# Altium footprint library ESP8266EX.PcbLib: 3 footprints
Each footprint in its own frame and in the unit in brackets; x right, y up, seen from the top. Pads: shape width x height; smd on the part's side, far side on the other; paste and mask are expansions set on the pad; w line width, h text height; cw(c..) or ccw(c..) is an arc to the next point about the centre after c.
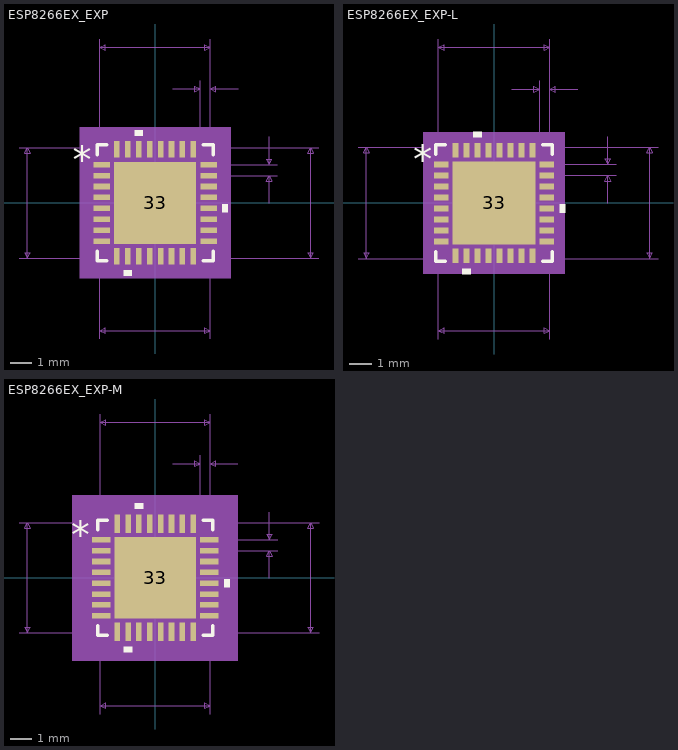
[diagram p0: the footprints below, top view; thin cyan lines are the x and y axes]

## ESP8266EX_EXP [mm]
pads (33):
  rect 0.757x0.255 smd paste+0 mask+0: 1(-2.449,1.75) 2(-2.449,1.25) 3(-2.449,0.75) 4(-2.449,0.25) 5(-2.449,-0.25) 6(-2.449,-0.75) 7(-2.449,-1.25) 8(-2.449,-1.75) 17(2.449,-1.75) 18(2.449,-1.25) 19(2.449,-0.75) 20(2.449,-0.25) 21(2.449,0.25) 22(2.449,0.75) 23(2.449,1.25) 24(2.449,1.75)
  rect 0.255x0.757 smd paste+0 mask+0: 9(-1.75,-2.449) 10(-1.25,-2.449) 11(-0.75,-2.449) 12(-0.25,-2.449) 13(0.25,-2.449) 14(0.75,-2.449) 15(1.25,-2.449) 16(1.75,-2.449) 25(1.75,2.449) 26(1.25,2.449) 27(0.75,2.449) 28(0.25,2.449) 29(-0.25,2.449) 30(-0.75,2.449) 31(-1.25,2.449) 32(-1.75,2.449)
  rect 3.759x3.759 smd paste-1.867 mask+0: 33(0,0)
Top Overlay:
  region: -0.56,3.081 -0.941,3.081 -0.941,3.335 -0.56,3.335
  region: 3.081,-0.059 3.335,-0.059 3.335,-0.44 3.081,-0.44
  region: -1.06,-3.081 -1.441,-3.081 -1.441,-3.335 -1.06,-3.335
  lines w0.152: -2.654,-2.21 -2.654,-2.654 -2.21,-2.654 ; -2.654,2.21 -2.654,2.654 -2.21,2.654 ; 2.21,-2.654 2.654,-2.654 2.654,-2.21 ; 2.21,2.654 2.654,2.654 2.654,2.21
  text "*" at -3.78,1.365 h1.27
Top Paste:
  region: 1.78,-0.1 0.1,-0.1 0.1,-1.78 1.78,-1.78
  region: 1.78,1.78 0.1,1.78 0.1,0.1 1.78,0.1
  region: -0.1,-0.1 -1.78,-0.1 -1.78,-1.78 -0.1,-1.78
  region: -0.1,1.78 -1.78,1.78 -1.78,0.1 -0.1,0.1
Mechanical 5:
  region: 3.462,-3.462 -3.462,-3.462 -3.462,3.462 3.462,3.462
Mechanical 7:
  lines w0.025: -6.233,-2.527 2.527,-2.527 ; -6.233,2.527 2.527,2.527 2.527,-6.233 ; -2.527,-6.233 -2.527,2.527 ; -2.527,1.75 -2.527,7.503 ; 0.8,5.217 2.07,5.217 ; 1.75,-2.527 7.503,-2.527 ; 1.75,2.527 7.503,2.527 ; 2.07,1.75 2.07,5.598 ; 2.449,1.25 5.598,1.25 ; 2.449,1.75 5.598,1.75 ; 2.527,5.598 2.527,1.75 2.527,7.503 ; 3.797,5.217 2.527,5.217 ; 5.217,-0.02 5.217,1.25 ; 5.217,3.02 5.217,1.75 ; -5.852,-2.527 -5.725,-2.273 -5.979,-2.273 -5.852,-2.527 ; -5.852,-2.527 -5.852,2.527 ; -5.852,2.527 -5.725,2.273 -5.979,2.273 -5.852,2.527 ; -2.527,-5.852 -2.273,-5.979 -2.273,-5.725 -2.527,-5.852 ; -2.527,-5.852 2.527,-5.852 ; -2.527,7.122 -2.273,6.995 -2.273,7.249 -2.527,7.122 ; -2.527,7.122 2.527,7.122 ; 2.07,5.217 1.816,5.09 1.816,5.344 2.07,5.217 ; 2.527,-5.852 2.273,-5.979 2.273,-5.725 2.527,-5.852 ; 2.527,5.217 2.781,5.09 2.781,5.344 2.527,5.217 ; 2.527,7.122 2.273,6.995 2.273,7.249 2.527,7.122 ; 5.217,1.25 5.344,0.996 5.09,0.996 5.217,1.25 ; 5.217,1.75 5.344,2.004 5.09,2.004 5.217,1.75 ; 7.122,-2.527 7.249,-2.273 6.995,-2.273 7.122,-2.527 ; 7.122,-2.527 7.122,2.527 ; 7.122,2.527 7.249,2.273 6.995,2.273 7.122,2.527
  text "0.199in/5.055mm" at -2.381,-6.995 h0.64
  text "0.199in/5.055mm" at -11.123,-0.318 h0.64
  text "0.199in/5.055mm" at 7.63,-0.318 h0.64
  text "0.199in/5.055mm" at -2.381,7.63 h0.64
  text "0.018in/0.457mm" at -0.083,5.725 h0.64
  text "0.02in/0.5mm" at 5.725,1.182 h0.64
  text "Alt 2 Padstyle: b229_152h76" at -8.572,-16.797 h1.27
  text "Alt 1 Padstyle: b152_229h76" at -8.572,-15.273 h1.27
  text "Heat Tab Padstyle: r376_376" at -8.572,-12.225 h1.27
  text "Default Padstyle: r25_76" at -7.62,-10.701 h1.27
Mechanical 13:
  lines w0.025: -2.527,1.257 -1.257,2.527 ; -2.527,-2.527 -2.527,2.527 2.527,2.527 2.527,-2.527 -2.527,-2.527 ; -2.527,-1.902 -2.527,-1.598 -2.527,-1.902 ; -2.527,-1.402 -2.527,-1.098 -2.527,-1.402 ; -2.527,-0.902 -2.527,-0.598 -2.527,-0.902 ; -2.527,-0.402 -2.527,-0.098 -2.527,-0.402 ; -2.527,0.098 -2.527,0.402 -2.527,0.098 ; -2.527,0.598 -2.527,0.902 -2.527,0.598 ; -2.527,1.098 -2.527,1.402 -2.527,1.098 ; -2.527,1.598 -2.527,1.902 -2.527,1.598 ; -1.902,-2.527 -1.598,-2.527 -1.902,-2.527 ; -1.902,2.527 -1.598,2.527 -1.902,2.527 ; -1.402,-2.527 -1.098,-2.527 -1.402,-2.527 ; -1.402,2.527 -1.098,2.527 -1.402,2.527 ; -0.902,-2.527 -0.598,-2.527 -0.902,-2.527 ; -0.902,2.527 -0.598,2.527 -0.902,2.527 ; -0.402,-2.527 -0.098,-2.527 -0.402,-2.527 ; -0.402,2.527 -0.098,2.527 -0.402,2.527 ; 0.098,-2.527 0.402,-2.527 0.098,-2.527 ; 0.098,2.527 0.402,2.527 0.098,2.527 ; 0.598,-2.527 0.902,-2.527 0.598,-2.527 ; 0.598,2.527 0.902,2.527 0.598,2.527 ; 1.098,-2.527 1.402,-2.527 1.098,-2.527 ; 1.098,2.527 1.402,2.527 1.098,2.527 ; 1.598,-2.527 1.902,-2.527 1.598,-2.527 ; 1.598,2.527 1.902,2.527 1.598,2.527 ; 2.527,-1.902 2.527,-1.598 2.527,-1.902 ; 2.527,-1.402 2.527,-1.098 2.527,-1.402 ; 2.527,-0.902 2.527,-0.598 2.527,-0.902 ; 2.527,-0.402 2.527,-0.098 2.527,-0.402 ; 2.527,0.098 2.527,0.402 2.527,0.098 ; 2.527,0.598 2.527,0.902 2.527,0.598 ; 2.527,1.098 2.527,1.402 2.527,1.098 ; 2.527,1.598 2.527,1.902 2.527,1.598
  text "*" at -2.388,1.365 h1.27
Mechanical 15:
  region: -2.131,-2.781 -2.781,-2.781 -2.781,-2.131 -3.081,-2.131 -3.081,2.131 -2.781,2.131 -2.781,2.781 -2.131,2.781 -2.131,3.081 2.131,3.081 2.131,2.781 2.781,2.781 2.781,2.131 3.081,2.131 3.081,-2.131 2.781,-2.131 2.781,-2.781 2.131,-2.781 2.131,-3.081 -2.131,-3.081
  lines w0.152: -3.081,-2.131 -3.081,2.131 -2.781,2.131 -2.781,2.781 -2.131,2.781 -2.131,3.081 2.131,3.081 2.131,2.781 2.781,2.781 2.781,2.131 3.081,2.131 3.081,-2.131 2.781,-2.131 2.781,-2.781 2.131,-2.781 2.131,-3.081 -2.131,-3.081 -2.131,-2.781 -2.781,-2.781 -2.781,-2.131 -3.081,-2.131
3D body "ESP8266EX_EXP.step": height 0.89, standoff 0, extent -2.527,-2.527 2.527,2.527
3D body: height 0.25, standoff 0, extent 0,0 0.254,0.254

## ESP8266EX_EXP-L [mm]
pads (33):
  rect 0.657x0.255 smd paste+0 mask+0: 1(-2.399,1.75) 2(-2.399,1.25) 3(-2.399,0.75) 4(-2.399,0.25) 5(-2.399,-0.25) 6(-2.399,-0.75) 7(-2.399,-1.25) 8(-2.399,-1.75) 17(2.399,-1.75) 18(2.399,-1.25) 19(2.399,-0.75) 20(2.399,-0.25) 21(2.399,0.25) 22(2.399,0.75) 23(2.399,1.25) 24(2.399,1.75)
  rect 0.255x0.657 smd paste+0 mask+0: 9(-1.75,-2.399) 10(-1.25,-2.399) 11(-0.75,-2.399) 12(-0.25,-2.399) 13(0.25,-2.399) 14(0.75,-2.399) 15(1.25,-2.399) 16(1.75,-2.399) 25(1.75,2.399) 26(1.25,2.399) 27(0.75,2.399) 28(0.25,2.399) 29(-0.25,2.399) 30(-0.75,2.399) 31(-1.25,2.399) 32(-1.75,2.399)
  rect 3.759x3.759 smd paste-1.867 mask+0: 33(0,0)
Top Overlay:
  region: -1.06,-2.981 -1.441,-2.981 -1.441,-3.235 -1.06,-3.235
  region: 2.981,-0.059 3.235,-0.059 3.235,-0.44 2.981,-0.44
  region: -0.56,2.981 -0.941,2.981 -0.941,3.235 -0.56,3.235
  lines w0.152: -2.654,-2.21 -2.654,-2.654 -2.21,-2.654 ; -2.654,2.21 -2.654,2.654 -2.21,2.654 ; 2.21,-2.654 2.654,-2.654 2.654,-2.21 ; 2.21,2.654 2.654,2.654 2.654,2.21
  text "*" at -3.68,1.365 h1.27
Top Paste:
  region: -0.1,1.78 -1.78,1.78 -1.78,0.1 -0.1,0.1
  region: -0.1,-0.1 -1.78,-0.1 -1.78,-1.78 -0.1,-1.78
  region: 1.78,1.78 0.1,1.78 0.1,0.1 1.78,0.1
  region: 1.78,-0.1 0.1,-0.1 0.1,-1.78 1.78,-1.78
Mechanical 5:
  region: 3.21,-3.21 -3.21,-3.21 -3.21,3.21 3.21,3.21
Mechanical 7:
  lines w0.025: -6.183,-2.527 2.527,-2.527 ; -6.183,2.527 2.527,2.527 2.527,-6.183 ; -2.527,-6.183 -2.527,2.527 ; -2.527,1.75 -2.527,7.453 ; 0.8,5.167 2.07,5.167 ; 1.75,-2.527 7.453,-2.527 ; 1.75,2.527 7.453,2.527 ; 2.07,1.75 2.07,5.548 ; 2.399,1.25 5.548,1.25 ; 2.399,1.75 5.548,1.75 ; 2.527,5.548 2.527,1.75 2.527,7.453 ; 3.797,5.167 2.527,5.167 ; 5.167,-0.02 5.167,1.25 ; 5.167,3.02 5.167,1.75 ; -5.802,-2.527 -5.802,2.527 ; -5.802,-2.527 -5.929,-2.273 -5.675,-2.273 -5.802,-2.527 ; -5.802,2.527 -5.929,2.273 -5.675,2.273 -5.802,2.527 ; -2.527,-5.802 2.527,-5.802 ; -2.527,-5.802 -2.273,-5.675 -2.273,-5.929 -2.527,-5.802 ; -2.527,7.072 2.527,7.072 ; -2.527,7.072 -2.273,7.199 -2.273,6.945 -2.527,7.072 ; 2.07,5.167 1.816,5.294 1.816,5.04 2.07,5.167 ; 2.527,-5.802 2.273,-5.675 2.273,-5.929 2.527,-5.802 ; 2.527,5.167 2.781,5.294 2.781,5.04 2.527,5.167 ; 2.527,7.072 2.273,7.199 2.273,6.945 2.527,7.072 ; 5.167,1.25 5.04,0.996 5.294,0.996 5.167,1.25 ; 5.167,1.75 5.04,2.004 5.294,2.004 5.167,1.75 ; 7.072,-2.527 7.072,2.527 ; 7.072,-2.527 6.945,-2.273 7.199,-2.273 7.072,-2.527 ; 7.072,2.527 6.945,2.273 7.199,2.273 7.072,2.527
  text "Default Padstyle: r25_66" at -7.62,-10.601 h1.27
  text "Heat Tab Padstyle: r376_376" at -8.572,-12.125 h1.27
  text "Alt 1 Padstyle: b152_229h76" at -8.572,-15.173 h1.27
  text "Alt 2 Padstyle: b229_152h76" at -8.572,-16.697 h1.27
  text "0.02in/0.5mm" at 5.675,1.182 h0.64
  text "0.018in/0.457mm" at -0.083,5.675 h0.64
  text "0.199in/5.055mm" at -2.381,7.58 h0.64
  text "0.199in/5.055mm" at 7.58,-0.318 h0.64
  text "0.199in/5.055mm" at -11.073,-0.318 h0.64
  text "0.199in/5.055mm" at -2.381,-6.945 h0.64
Mechanical 13:
  lines w0.025: -2.527,1.257 -1.257,2.527 ; -2.527,-2.527 2.527,-2.527 2.527,2.527 -2.527,2.527 -2.527,-2.527 ; -2.527,-1.902 -2.527,-1.598 -2.527,-1.902 ; -2.527,-1.402 -2.527,-1.098 -2.527,-1.402 ; -2.527,-0.902 -2.527,-0.598 -2.527,-0.902 ; -2.527,-0.402 -2.527,-0.098 -2.527,-0.402 ; -2.527,0.098 -2.527,0.402 -2.527,0.098 ; -2.527,0.598 -2.527,0.902 -2.527,0.598 ; -2.527,1.098 -2.527,1.402 -2.527,1.098 ; -2.527,1.598 -2.527,1.902 -2.527,1.598 ; -1.902,-2.527 -1.598,-2.527 -1.902,-2.527 ; -1.902,2.527 -1.598,2.527 -1.902,2.527 ; -1.402,-2.527 -1.098,-2.527 -1.402,-2.527 ; -1.402,2.527 -1.098,2.527 -1.402,2.527 ; -0.902,-2.527 -0.598,-2.527 -0.902,-2.527 ; -0.902,2.527 -0.598,2.527 -0.902,2.527 ; -0.402,-2.527 -0.098,-2.527 -0.402,-2.527 ; -0.402,2.527 -0.098,2.527 -0.402,2.527 ; 0.098,-2.527 0.402,-2.527 0.098,-2.527 ; 0.098,2.527 0.402,2.527 0.098,2.527 ; 0.598,-2.527 0.902,-2.527 0.598,-2.527 ; 0.598,2.527 0.902,2.527 0.598,2.527 ; 1.098,-2.527 1.402,-2.527 1.098,-2.527 ; 1.098,2.527 1.402,2.527 1.098,2.527 ; 1.598,-2.527 1.902,-2.527 1.598,-2.527 ; 1.598,2.527 1.902,2.527 1.598,2.527 ; 2.527,-1.902 2.527,-1.598 2.527,-1.902 ; 2.527,-1.402 2.527,-1.098 2.527,-1.402 ; 2.527,-0.902 2.527,-0.598 2.527,-0.902 ; 2.527,-0.402 2.527,-0.098 2.527,-0.402 ; 2.527,0.098 2.527,0.402 2.527,0.098 ; 2.527,0.598 2.527,0.902 2.527,0.598 ; 2.527,1.098 2.527,1.402 2.527,1.098 ; 2.527,1.598 2.527,1.902 2.527,1.598
  text "*" at -2.388,1.365 h1.27
Mechanical 15:
  region: -1.979,-2.629 -2.629,-2.629 -2.629,-1.979 -2.829,-1.979 -2.829,1.979 -2.629,1.979 -2.629,2.629 -1.979,2.629 -1.979,2.829 1.979,2.829 1.979,2.629 2.629,2.629 2.629,1.979 2.829,1.979 2.829,-1.979 2.629,-1.979 2.629,-2.629 1.979,-2.629 1.979,-2.829 -1.979,-2.829
  lines w0.152: -2.829,-1.979 -2.629,-1.979 -2.629,-2.629 -1.979,-2.629 -1.979,-2.829 1.979,-2.829 1.979,-2.629 2.629,-2.629 2.629,-1.979 2.829,-1.979 2.829,1.979 2.629,1.979 2.629,2.629 1.979,2.629 1.979,2.829 -1.979,2.829 -1.979,2.629 -2.629,2.629 -2.629,1.979 -2.829,1.979 -2.829,-1.979
3D body: height 0.25, standoff 0, extent 0,0 0.254,0.254
3D body "ESP8266EX_EXP-L.step": height 0.89, standoff 0, extent -2.527,-2.527 2.527,2.527

## ESP8266EX_EXP-M [mm]
pads (33):
  rect 0.857x0.255 smd paste+0 mask+0: 1(-2.499,1.75) 2(-2.499,1.25) 3(-2.499,0.75) 4(-2.499,0.25) 5(-2.499,-0.25) 6(-2.499,-0.75) 7(-2.499,-1.25) 8(-2.499,-1.75) 17(2.499,-1.75) 18(2.499,-1.25) 19(2.499,-0.75) 20(2.499,-0.25) 21(2.499,0.25) 22(2.499,0.75) 23(2.499,1.25) 24(2.499,1.75)
  rect 0.255x0.857 smd paste+0 mask+0: 9(-1.75,-2.499) 10(-1.25,-2.499) 11(-0.75,-2.499) 12(-0.25,-2.499) 13(0.25,-2.499) 14(0.75,-2.499) 15(1.25,-2.499) 16(1.75,-2.499) 25(1.75,2.499) 26(1.25,2.499) 27(0.75,2.499) 28(0.25,2.499) 29(-0.25,2.499) 30(-0.75,2.499) 31(-1.25,2.499) 32(-1.75,2.499)
  rect 3.759x3.759 smd paste-1.867 mask+0: 33(0,0)
Top Overlay:
  region: -0.56,3.181 -0.941,3.181 -0.941,3.435 -0.56,3.435
  region: 3.181,-0.059 3.435,-0.059 3.435,-0.44 3.181,-0.44
  region: -1.06,-3.181 -1.441,-3.181 -1.441,-3.435 -1.06,-3.435
  lines w0.152: -2.654,-2.21 -2.654,-2.654 -2.21,-2.654 ; -2.654,2.21 -2.654,2.654 -2.21,2.654 ; 2.21,-2.654 2.654,-2.654 2.654,-2.21 ; 2.21,2.654 2.654,2.654 2.654,2.21
  text "*" at -3.88,1.365 h1.27
Top Paste:
  region: 1.78,-0.1 0.1,-0.1 0.1,-1.78 1.78,-1.78
  region: 1.78,1.78 0.1,1.78 0.1,0.1 1.78,0.1
  region: -0.1,-0.1 -1.78,-0.1 -1.78,-1.78 -0.1,-1.78
  region: -0.1,1.78 -1.78,1.78 -1.78,0.1 -0.1,0.1
Mechanical 5:
  region: 3.816,-3.816 -3.816,-3.816 -3.816,3.816 3.816,3.816
Mechanical 7:
  lines w0.025: -6.283,-2.527 2.527,-2.527 ; -6.283,2.527 2.527,2.527 2.527,-6.283 ; -2.527,-6.283 -2.527,2.527 ; -2.527,1.75 -2.527,7.553 ; 0.8,5.267 2.07,5.267 ; 1.75,-2.527 7.553,-2.527 ; 1.75,2.527 7.553,2.527 ; 2.07,1.75 2.07,5.648 ; 2.499,1.25 5.648,1.25 ; 2.499,1.75 5.648,1.75 ; 2.527,5.648 2.527,1.75 2.527,7.553 ; 3.797,5.267 2.527,5.267 ; 5.267,-0.02 5.267,1.25 ; 5.267,3.02 5.267,1.75 ; -5.902,-2.527 -5.775,-2.273 -6.029,-2.273 -5.902,-2.527 ; -5.902,-2.527 -5.902,2.527 ; -5.902,2.527 -5.775,2.273 -6.029,2.273 -5.902,2.527 ; -2.527,-5.902 -2.273,-6.029 -2.273,-5.775 -2.527,-5.902 ; -2.527,-5.902 2.527,-5.902 ; -2.527,7.172 -2.273,7.045 -2.273,7.299 -2.527,7.172 ; -2.527,7.172 2.527,7.172 ; 2.07,5.267 1.816,5.14 1.816,5.394 2.07,5.267 ; 2.527,-5.902 2.273,-6.029 2.273,-5.775 2.527,-5.902 ; 2.527,5.267 2.781,5.14 2.781,5.394 2.527,5.267 ; 2.527,7.172 2.273,7.045 2.273,7.299 2.527,7.172 ; 5.267,1.25 5.394,0.996 5.14,0.996 5.267,1.25 ; 5.267,1.75 5.394,2.004 5.14,2.004 5.267,1.75 ; 7.172,-2.527 7.299,-2.273 7.045,-2.273 7.172,-2.527 ; 7.172,-2.527 7.172,2.527 ; 7.172,2.527 7.299,2.273 7.045,2.273 7.172,2.527
  text "0.199in/5.055mm" at -2.381,-7.045 h0.64
  text "0.199in/5.055mm" at -11.173,-0.318 h0.64
  text "0.199in/5.055mm" at 7.68,-0.318 h0.64
  text "0.199in/5.055mm" at -2.381,7.68 h0.64
  text "0.018in/0.457mm" at -0.083,5.775 h0.64
  text "0.02in/0.5mm" at 5.775,1.182 h0.64
  text "Alt 2 Padstyle: b229_152h76" at -8.572,-16.897 h1.27
  text "Alt 1 Padstyle: b152_229h76" at -8.572,-15.373 h1.27
  text "Heat Tab Padstyle: r376_376" at -8.572,-12.325 h1.27
  text "Default Padstyle: r25_86" at -7.62,-10.801 h1.27
Mechanical 13:
  lines w0.025: -2.527,1.257 -1.257,2.527 ; -2.527,-2.527 -2.527,2.527 2.527,2.527 2.527,-2.527 -2.527,-2.527 ; -2.527,-1.902 -2.527,-1.598 -2.527,-1.902 ; -2.527,-1.402 -2.527,-1.098 -2.527,-1.402 ; -2.527,-0.902 -2.527,-0.598 -2.527,-0.902 ; -2.527,-0.402 -2.527,-0.098 -2.527,-0.402 ; -2.527,0.098 -2.527,0.402 -2.527,0.098 ; -2.527,0.598 -2.527,0.902 -2.527,0.598 ; -2.527,1.098 -2.527,1.402 -2.527,1.098 ; -2.527,1.598 -2.527,1.902 -2.527,1.598 ; -1.902,-2.527 -1.598,-2.527 -1.902,-2.527 ; -1.902,2.527 -1.598,2.527 -1.902,2.527 ; -1.402,-2.527 -1.098,-2.527 -1.402,-2.527 ; -1.402,2.527 -1.098,2.527 -1.402,2.527 ; -0.902,-2.527 -0.598,-2.527 -0.902,-2.527 ; -0.902,2.527 -0.598,2.527 -0.902,2.527 ; -0.402,-2.527 -0.098,-2.527 -0.402,-2.527 ; -0.402,2.527 -0.098,2.527 -0.402,2.527 ; 0.098,-2.527 0.402,-2.527 0.098,-2.527 ; 0.098,2.527 0.402,2.527 0.098,2.527 ; 0.598,-2.527 0.902,-2.527 0.598,-2.527 ; 0.598,2.527 0.902,2.527 0.598,2.527 ; 1.098,-2.527 1.402,-2.527 1.098,-2.527 ; 1.098,2.527 1.402,2.527 1.098,2.527 ; 1.598,-2.527 1.902,-2.527 1.598,-2.527 ; 1.598,2.527 1.902,2.527 1.598,2.527 ; 2.527,-1.902 2.527,-1.598 2.527,-1.902 ; 2.527,-1.402 2.527,-1.098 2.527,-1.402 ; 2.527,-0.902 2.527,-0.598 2.527,-0.902 ; 2.527,-0.402 2.527,-0.098 2.527,-0.402 ; 2.527,0.098 2.527,0.402 2.527,0.098 ; 2.527,0.598 2.527,0.902 2.527,0.598 ; 2.527,1.098 2.527,1.402 2.527,1.098 ; 2.527,1.598 2.527,1.902 2.527,1.598
  text "*" at -2.388,1.365 h1.27
Mechanical 15:
  region: -2.385,-3.035 -3.035,-3.035 -3.035,-2.385 -3.435,-2.385 -3.435,2.385 -3.035,2.385 -3.035,3.035 -2.385,3.035 -2.385,3.435 2.385,3.435 2.385,3.035 3.035,3.035 3.035,2.385 3.435,2.385 3.435,-2.385 3.035,-2.385 3.035,-3.035 2.385,-3.035 2.385,-3.435 -2.385,-3.435
  lines w0.152: -3.435,-2.385 -3.435,2.385 -3.035,2.385 -3.035,3.035 -2.385,3.035 -2.385,3.435 2.385,3.435 2.385,3.035 3.035,3.035 3.035,2.385 3.435,2.385 3.435,-2.385 3.035,-2.385 3.035,-3.035 2.385,-3.035 2.385,-3.435 -2.385,-3.435 -2.385,-3.035 -3.035,-3.035 -3.035,-2.385 -3.435,-2.385
3D body "ESP8266EX_EXP-M.step": height 0.89, standoff 0, extent -2.527,-2.527 2.527,2.527
3D body: height 0.25, standoff 0, extent 0,0 0.254,0.254